# Altium schematic symbol library diode.Schlib: 5 symbols
Pins are listed as number, name and electrical type; pins without a type are passive.

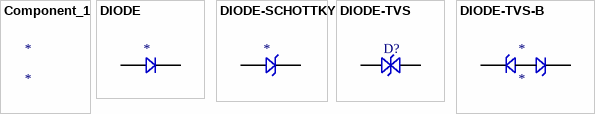
[diagram p0: symbols Component_1 to DIODE-TVS-B]

## Component_1
designator *

## DIODE
designator *  (value not drawn)
pins: 1, 2

## DIODE-SCHOTTKY
designator *  (value not drawn)
pins: 1, 2

## DIODE-TVS
designator D?  (value not drawn)
pins: 1, 2

## DIODE-TVS-B
designator *
pins: 1, 2